# Altium schematic symbol library modules.SchLib: 6 symbols
Pins are listed as number, name and electrical type; pins without a type are passive.

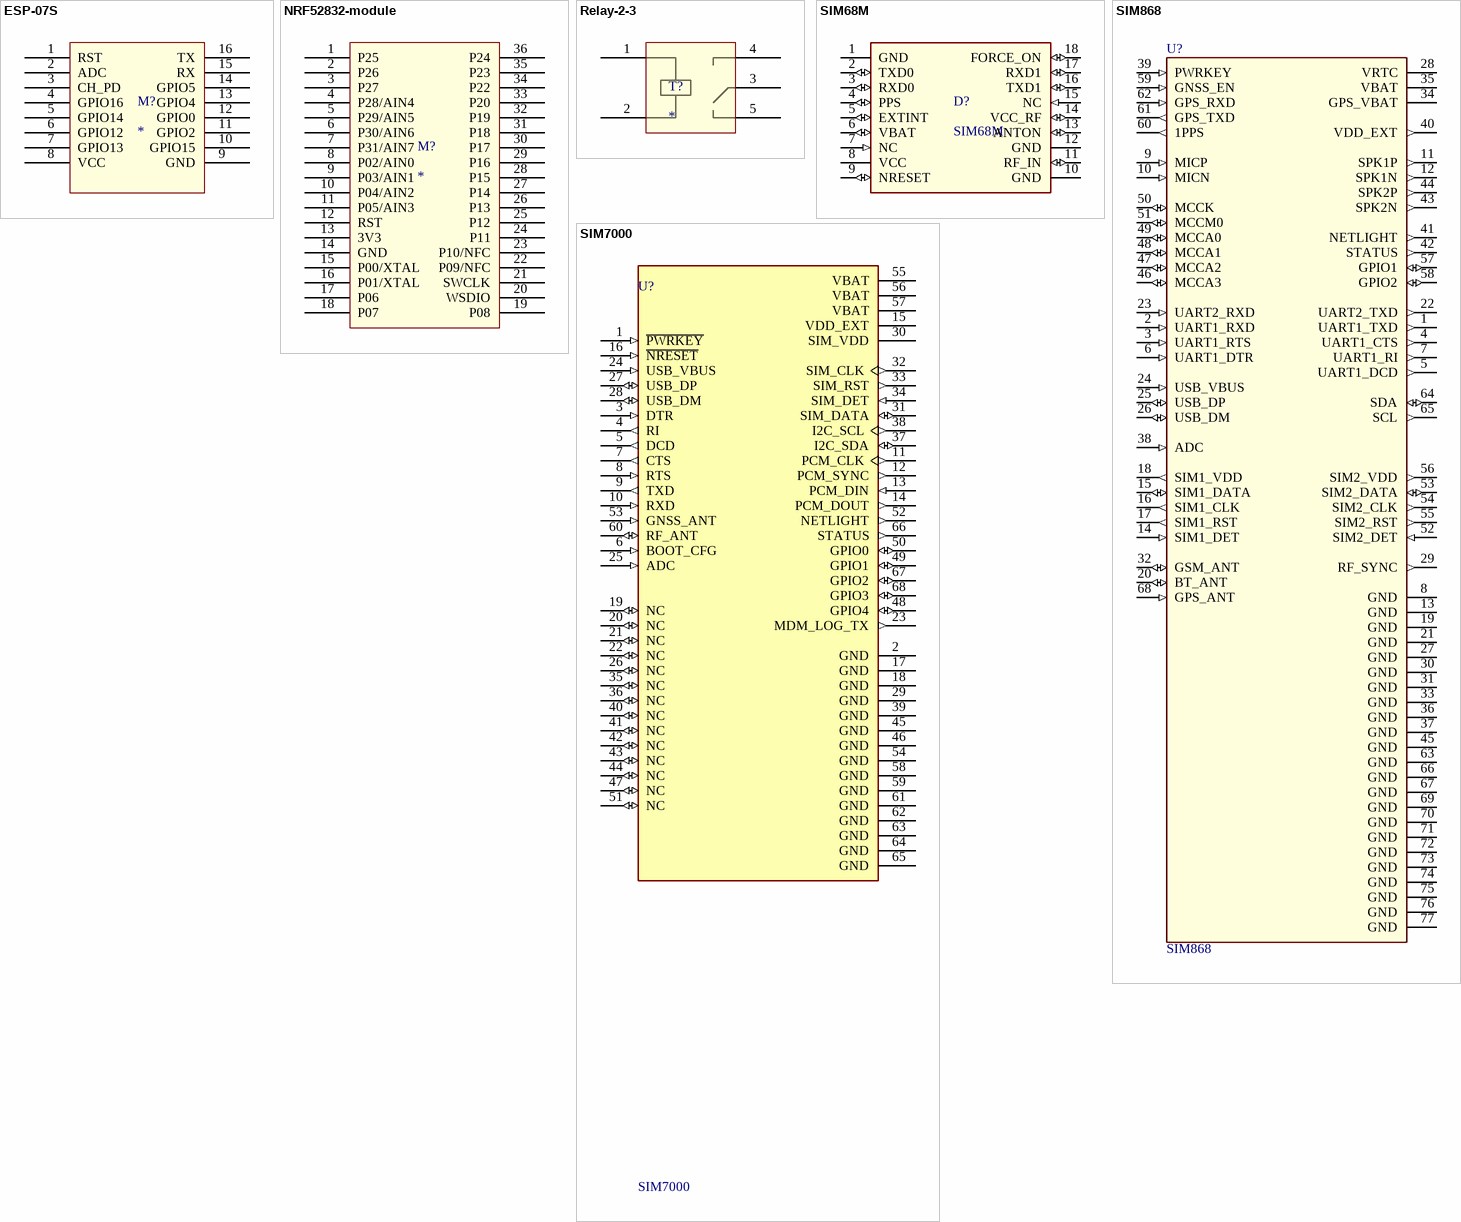
[diagram p0: symbols ESP-07S to SIM7000]

## ESP-07S
designator M?
pins: 1 RST, 2 ADC, 3 CH_PD, 4 GPIO16, 5 GPIO14, 6 GPIO12, 7 GPIO13, 8 VCC, 9 GND, 10 GPIO15, 11 GPIO2, 12 GPIO0, 13 GPIO4, 14 GPIO5, 15 RX, 16 TX

## NRF52832-module
designator M?
NRF52832
pins: 1 P25, 2 P26, 3 P27, 4 P28/AIN4, 5 P29/AIN5, 6 P30/AIN6, 7 P31/AIN7, 8 P02/AIN0, 9 P03/AIN1, 10 P04/AIN2, 11 P05/AIN3, 12 RST, 13 3V3, 14 GND, 15 P00/XTAL, 16 P01/XTAL, 17 P06, 18 P07, 19 P08, 20 WSDIO, 21 SWCLK, 22 P09/NFC, 23 P10/NFC, 24 P11, 25 P12, 26 P13, 27 P14, 28 P15, 29 P16, 30 P17, 31 P18, 32 P19, 33 P20, 34 P22, 35 P23, 36 P24

## Relay-2-3
designator T?
pins: 1 RX, 2 RX, 3 RX, 4 RX, 5 RX

## SIM68M
designator D?
GPS module
pins: 1 GND (power), 2 TXD0 (io), 3 RXD0 (io), 4 PPS (io), 5 EXTINT (io), 6 VBAT (io), 7 NC (in), 8 VCC (power), 9 NRESET (io), 10 GND (power), 11 RF_IN (io), 12 GND (power), 13 ANTON (io), 14 VCC_RF (io), 15 NC (in), 16 TXD1 (io), 17 RXD1 (io), 18 FORCE_ON (io)

## SIM868
designator U?
SIM868 GNSS, GSM RF mikroBUSв„ў Clickв„ў Platform Evaluation Expansion Board; MF: MikroElektronika; Price: None; Availability: Unavailable; SnapEDA_Link: https://www.snapeda.com/parts/SIM868/MikroElektronika/view-part/598612/?ref=snap; Package: None; MP: SIM868; Value: *
footprint *XCVR_SIM868
pins: 1 UART1_TXD (out), 2 UART1_RXD (in), 3 UART1_RTS (in), 4 UART1_CTS (out), 5 UART1_DCD (out), 6 UART1_DTR (in), 7 UART1_RI (out), 8 GND (power), 9 MICP (in), 10 MICN (in), 11 SPK1P (out), 12 SPK1N (out), 13 GND (power), 14 SIM1_DET (in), 15 SIM1_DATA (io), 16 SIM1_CLK (out), 17 SIM1_RST (out), 18 SIM1_VDD (out), 19 GND (power), 20 BT_ANT (io), 21 GND (power), 22 UART2_TXD (out), 23 UART2_RXD (in), 24 USB_VBUS (in), 25 USB_DP (io), 26 USB_DM (io), 27 GND (power), 28 VRTC (power), 29 RF_SYNC (out), 30 GND (power), 31 GND (power), 32 GSM_ANT (io), 33 GND (power), 34 GPS_VBAT (power), 35 VBAT (power), 36 GND (power), 37 GND (power), 38 ADC (in), 39 PWRKEY (in), 40 VDD_EXT (out), 41 NETLIGHT (out), 42 STATUS (out), 43 SPK2N (out), 44 SPK2P (out), 45 GND (power), 46 MCCA3 (io), 47 MCCA2 (io), 48 MCCA1 (io), 49 MCCA0 (io), 50 MCCK (io), 51 MCCM0 (io), 52 SIM2_DET (in), 53 SIM2_DATA (io), 54 SIM2_CLK (out), 55 SIM2_RST (out), 56 SIM2_VDD (out), 57 GPIO1 (io), 58 GPIO2 (io), 59 GNSS_EN (in), 60 1PPS (out), 61 GPS_TXD (out), 62 GPS_RXD (in), 63 GND (power), 64 SDA (io), 65 SCL (out), 66 GND (power), 67 GND (power), 68 GPS_ANT (in), 69 GND (power), 70 GND (power), 71 GND (power), 72 GND (power), 73 GND (power), 74 GND (power), 75 GND (power), 76 GND (power), 77 GND (power)

## SIM7000
designator U?
SIM7000E GPRS, LTE, NB-IoT Module; Package: None; MP: SIM7000E; Value: *
footprint SIM70XX(800) (SIM7000/7070/800 Series modules)
pins: 1 ~{PWRKEY} (in), 2 GND (power), 3 DTR (in), 4 RI (out), 5 DCD (out), 6 BOOT_CFG (in), 7 CTS (out), 8 RTS (in), 9 TXD (out), 10 RXD (in), 11 PCM_CLK (out), 12 PCM_SYNC (out), 13 PCM_DIN (in), 14 PCM_DOUT (out), 15 VDD_EXT (power), 16 ~{NRESET} (in), 17 GND (power), 18 GND (power), 19 NC (io), 20 NC (io), 21 NC (io), 22 NC (io), 23 MDM_LOG_TX (out), 24 USB_VBUS (in), 25 ADC (in), 26 NC (io), 27 USB_DP (io), 28 USB_DM (io), 29 GND (power), 30 SIM_VDD (power), 31 SIM_DATA (io), 32 SIM_CLK (out), 33 SIM_RST (out), 34 SIM_DET (in), 35 NC (io), 36 NC (io), 37 I2C_SDA (io), 38 I2C_SCL (out), 39 GND (power), 40 NC (io), 41 NC (io), 42 NC (io), 43 NC (io), 44 NC (io), 45 GND (power), 46 GND (power), 47 NC (io), 48 GPIO4 (io), 49 GPIO1 (io), 50 GPIO0 (io), 51 NC (io), 52 NETLIGHT (out), 53 GNSS_ANT (in), 54 GND (power), 55 VBAT (power), 56 VBAT (power), 57 VBAT (power), 58 GND (power), 59 GND (power), 60 RF_ANT (io), 61 GND (power), 62 GND (power), 63 GND (power), 64 GND (power), 65 GND (power), 66 STATUS (out), 67 GPIO2 (io), 68 GPIO3 (io)